# Altium schematic symbol library Schlib1.SchLib: 24 symbols
Pins are listed as number, name and electrical type; pins without a type are passive.

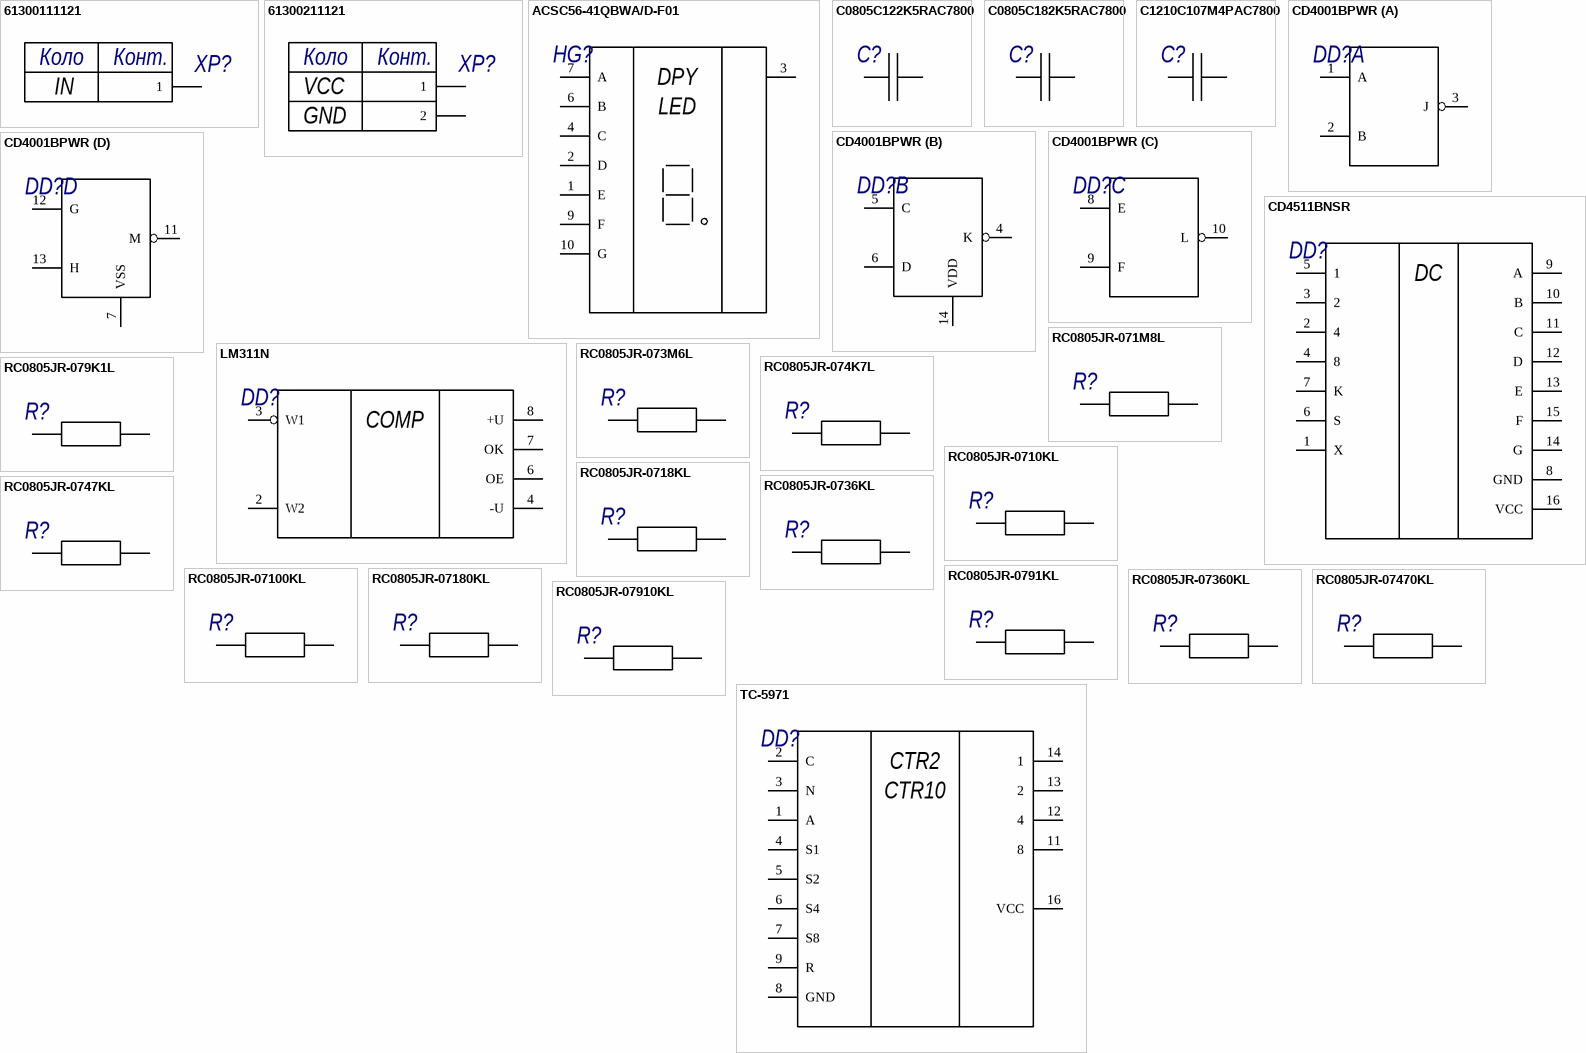
[diagram p0: symbols 61300111121 to TC-5971]

## 61300111121
designator XP?, comment 61300111121 Würth Elektronik  (value not drawn)
CONN HEADER VERT 1POS; Manufacturer: Würth Elektronik; Name: 61300111121
footprint PLS-1 (CONN HEADER VERT 1POS)
pins: 1
text: Коло; Конт.; IN

## 61300211121
designator XP?, comment 61300211121 Würth Elektronik  (value not drawn)
CONN HEADER VERT 2POS 2.54MM; Manufacturer: Würth Elektronik; Name: 61300211121
footprint PLS-2 (CONN HEADER VERT 2POS 2.54MM)
pins: 1, 2
text: Коло; Конт.; VCC; GND

## ACSC56-41QBWA/D-F01
designator HG?, comment ACSC56-41QBWA/D-F01 Kingbright  (value not drawn)
DISPLAY 7SEG 0.56" SGL BLU 10SMD; Manufacturer: Kingbright; Name: ACSC56-41QBWA/D-F01
footprint ACSX56-41 (DISPLAY 7SEG 0.56" SGL BLU 10SMD)
pins: 1 E, 2 D, 3, 4 C, 6 B, 7 A, 9 F, 10 G
text: DPY; LED

## C0805C122K5RAC7800
designator C?, comment C-0805 50 В 1,2 нФ 10% X7R KEMET  (value not drawn)
CAP CER 1200PF 50V X7R 0805; Voltage: 50 В; Value: 1,2 нФ; Package: C-0805; Manufacturer: KEMET; Temp_Coef: X7R; Tolerance: 10%
footprint CAPC2012X09N (Chip Capacitor, 2-Leads, Body 2.00x1.25mm, IPC Medium Density)
pins: 1, 2

## C0805C182K5RAC7800
designator C?, comment C-0805 50 В 1,8 нФ 10% X7R KEMET  (value not drawn)
CAP CER 1800PF 50V X7R 0805; Voltage: 50 В; Value: 1,8 нФ; Package: C-0805; Manufacturer: KEMET; Temp_Coef: X7R; Tolerance: 10%
footprint CAPC2012X09N (Chip Capacitor, 2-Leads, Body 2.00x1.25mm, IPC Medium Density)
pins: 1, 2

## C1210C107M4PAC7800
designator C?, comment C-1210 16 В 100 мкФ 20% X5R KEMET  (value not drawn)
CAP CER 100UF 16V X5R 1210; Voltage: 16 В; Value: 100 мкФ; Package: C-1210; Manufacturer: KEMET; Temp_Coef: X5R; Tolerance: 20%
footprint CAPC3225X27N (Chip Capacitor, 2-Leads, Body 3.20x2.50mm, IPC Medium Density)
pins: 1, 2

## CD4001BPWR
designator DD?, comment CD4001BPWR Texas Instruments  (value not drawn)
IC GATE NOR 4CH 2-INP 14TSSOP; Manufacturer: Texas Instruments; Name: CD4001BPWR
footprint TSOP65P640X120-14N (TSOP, 14-Leads, Body 5.00x4.40mm, Pitch 0.65mm, IPC Medium Density)
part A pins: 1 A, 2 B, 3 J
part B pins: 4 K, 5 C, 6 D, 14 VDD
part C pins: 8 E, 9 F, 10 L
part D pins: 7 VSS, 11 M, 12 G, 13 H

## CD4511BNSR
designator DD?, comment CD4511BNSR Texas Instruments  (value not drawn)
IC DRVR 7 SEGMENT 16SO; Manufacturer: Texas Instruments; Name: CD4511BNSR
footprint SOIC127P780X200-16N (SOIC, 16-Leads, Body 10.20x5.30mm, Pitch 1.27mm, IPC Medium Density)
pins: 1 X, 2 4, 3 2, 4 8, 5 1, 6 S, 7 K, 8 GND, 9 A, 10 B, 11 C, 12 D, 13 E, 14 G, 15 F, 16 VCC
text: DC

## LM311N
designator DD?, comment LM311N STMicroelectronics  (value not drawn)
IC VOLTAGE COMPARATOR 8-DIP; Manufacturer: STMicroelectronics; Name: LM311N
footprint DIP-8_STM
pins: 2 W2, 3 W1, 4 -U, 6 OE, 7 OK, 8 +U
text: COMP

## RC0805JR-071M8L
designator R?, comment R-0805 0,125 Вт 1,8 МОм 5% YAGEO  (value not drawn)
RES 1.8M OHM 5% 1/8W 0805; Value: 1,8 МОм; Package: R-0805; Power: 0,125 Вт; Tolerance: 5%; Manufacturer: YAGEO
footprint RESC2012X05N (Chip Resistor, 2-Leads, Body 2.00x1.25mm, IPC Medium Density)
pins: 1, 2

## RC0805JR-073M6L
designator R?, comment R-0805 0,125 Вт 3,6 МОм 5% YAGEO  (value not drawn)
RES 3.6M OHM 5% 1/8W 0805; Value: 3,6 МОм; Package: R-0805; Power: 0,125 Вт; Tolerance: 5%; Manufacturer: YAGEO
footprint RESC2012X05N (Chip Resistor, 2-Leads, Body 2.00x1.25mm, IPC Medium Density)
pins: 1, 2

## RC0805JR-074K7L
designator R?, comment R-0805 0,125 Вт 4,7 кОм 5% YAGEO  (value not drawn)
RES 4.7K OHM 5% 1/8W 0805; Value: 4,7 кОм; Package: R-0805; Power: 0,125 Вт; Tolerance: 5%; Manufacturer: YAGEO
footprint RESC2012X05N (Chip Resistor, 2-Leads, Body 2.00x1.25mm, IPC Medium Density)
pins: 1, 2

## RC0805JR-079K1L
designator R?, comment R-0805 0,125 Вт 9,1 кОм 5% YAGEO  (value not drawn)
RES 9.1K OHM 5% 1/8W 0805; Value: 9,1 кОм; Package: R-0805; Power: 0,125 Вт; Tolerance: 5%; Manufacturer: YAGEO
footprint RESC2012X05N (Chip Resistor, 2-Leads, Body 2.00x1.25mm, IPC Medium Density)
pins: 1, 2

## RC0805JR-0710KL
designator R?, comment R-0805 0,125 Вт 10 кОм 5% YAGEO  (value not drawn)
RES 10K OHM 5% 1/8W 0805; Value: 10 кОм; Package: R-0805; Power: 0,125 Вт; Tolerance: 5%; Manufacturer: YAGEO
footprint RESC2012X05N (Chip Resistor, 2-Leads, Body 2.00x1.25mm, IPC Medium Density)
pins: 1, 2

## RC0805JR-0718KL
designator R?, comment R-0805 0,125 Вт 18 кОм 5% YAGEO  (value not drawn)
RES 18K OHM 5% 1/8W 0805; Value: 18 кОм; Package: R-0805; Power: 0,125 Вт; Tolerance: 5%; Manufacturer: YAGEO
footprint RESC2012X05N (Chip Resistor, 2-Leads, Body 2.00x1.25mm, IPC Medium Density)
pins: 1, 2

## RC0805JR-0736KL
designator R?, comment R-0805 0,125 Вт 36 кОм 5% YAGEO  (value not drawn)
RES 36K OHM 5% 1/8W 0805; Value: 36 кОм; Package: R-0805; Power: 0,125 Вт; Tolerance: 5%; Manufacturer: YAGEO
footprint RESC2012X05N (Chip Resistor, 2-Leads, Body 2.00x1.25mm, IPC Medium Density)
pins: 1, 2

## RC0805JR-0747KL
designator R?, comment R-0805 0,125 Вт 47 кОм 5% YAGEO  (value not drawn)
RES 47K OHM 5% 1/8W 0805; Value: 47 кОм; Package: R-0805; Power: 0,125 Вт; Tolerance: 5%; Manufacturer: YAGEO
footprint RESC2012X05N (Chip Resistor, 2-Leads, Body 2.00x1.25mm, IPC Medium Density)
pins: 1, 2

## RC0805JR-0791KL
designator R?, comment R-0805 0,125 Вт 91 кОм 5% YAGEO  (value not drawn)
RES 91K OHM 5% 1/8W 0805; Value: 91 кОм; Package: R-0805; Power: 0,125 Вт; Tolerance: 5%; Manufacturer: YAGEO
footprint RESC2012X05N (Chip Resistor, 2-Leads, Body 2.00x1.25mm, IPC Medium Density)
pins: 1, 2

## RC0805JR-07100KL
designator R?, comment R-0805 0,125 Вт 100 кОм 5% YAGEO  (value not drawn)
RES 100K OHM 5% 1/8W 0805; Value: 100 кОм; Package: R-0805; Power: 0,125 Вт; Tolerance: 5%; Manufacturer: YAGEO
footprint RESC2012X05N (Chip Resistor, 2-Leads, Body 2.00x1.25mm, IPC Medium Density)
pins: 1, 2

## RC0805JR-07180KL
designator R?, comment R-0805 0,125 Вт 180 кОм 5% YAGEO  (value not drawn)
RES 180K OHM 5% 1/8W 0805; Value: 180 кОм; Package: R-0805; Power: 0,125 Вт; Tolerance: 5%; Manufacturer: YAGEO
footprint RESC2012X05N (Chip Resistor, 2-Leads, Body 2.00x1.25mm, IPC Medium Density)
pins: 1, 2

## RC0805JR-07360KL
designator R?, comment R-0805 0,125 Вт 360 кОм 5% YAGEO  (value not drawn)
RES 360K OHM 5% 1/8W 0805; Value: 360 кОм; Package: R-0805; Power: 0,125 Вт; Tolerance: 5%; Manufacturer: YAGEO
footprint RESC2012X05N (Chip Resistor, 2-Leads, Body 2.00x1.25mm, IPC Medium Density)
pins: 1, 2

## RC0805JR-07470KL
designator R?, comment R-0805 0,125 Вт 470 кОм 5% YAGEO  (value not drawn)
RES 470K OHM 5% 1/8W 0805; Value: 470 кОм; Package: R-0805; Power: 0,125 Вт; Tolerance: 5%; Manufacturer: YAGEO
footprint RESC2012X05N (Chip Resistor, 2-Leads, Body 2.00x1.25mm, IPC Medium Density)
pins: 1, 2

## RC0805JR-07910KL
designator R?, comment R-0805 0,125 Вт 910 кОм 5% YAGEO  (value not drawn)
RES 910K OHM 5% 1/8W 0805; Value: 910 кОм; Package: R-0805; Power: 0,125 Вт; Tolerance: 5%; Manufacturer: YAGEO
footprint RESC2012X05N (Chip Resistor, 2-Leads, Body 2.00x1.25mm, IPC Medium Density)
pins: 1, 2

## TC-5971
designator DD?  (value not drawn)
IC COUNTER BINARY/DECADE; Name: TC-5971
footprint TC5971
pins: 1 A, 2 C, 3 N, 4 S1, 5 S2, 6 S4, 7 S8, 8 GND, 9 R, 11 8, 12 4, 13 2, 14 1, 16 VCC
text: CTR2; CTR10